# Altium schematic symbol library IC_VS1053B_LQFP48.SchLib: 1 symbol
Pins are listed as number, name and electrical type; pins without a type are passive.

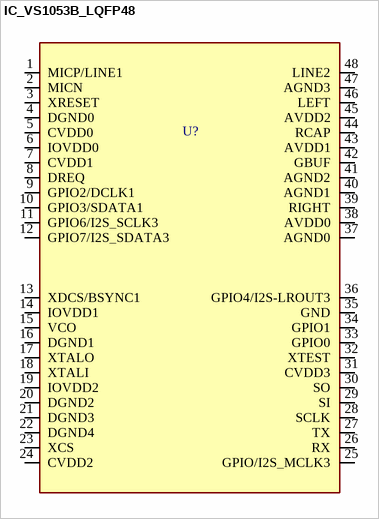
[diagram p0: symbol IC_VS1053B_LQFP48]

## IC_VS1053B_LQFP48
designator U?  (value not drawn)
VS1053B MP3/WAV/OGG/MIDI Player & Recorder (CODEC) Chip; MP: VS1053B-L; MF: VLSI; Availability: Unavailable; Check_prices: https://www.snapeda.com/parts/VS1053B-L/VLSI/view-part/105440/?ref=eda; SnapEDA_Link: https://www.snapeda.com/parts/VS1053B-L/VLSI/view-part/105440/?ref=snap; Price: None; Package: LQFP-48 VLSI; Value: *; Supplier 1: DigiKey; Supplier Part Number 1: 1528-2645-ND; Supplier 2: Mouser; Supplier Part Number 2: 485-1681
footprint IC_VS1053B_LQFP48 (VS1053B MP3/WAV/OGG/MIDI PLAYER)
pins: 1 MICP/LINE1, 2 MICN, 3 XRESET, 4 DGND0, 5 CVDD0, 6 IOVDD0, 7 CVDD1, 8 DREQ, 9 GPIO2/DCLK1, 10 GPIO3/SDATA1, 11 GPIO6/I2S_SCLK3, 12 GPIO7/I2S_SDATA3, 13 XDCS/BSYNC1, 14 IOVDD1, 15 VCO, 16 DGND1, 17 XTALO, 18 XTALI, 19 IOVDD2, 20 DGND2, 21 DGND3, 22 DGND4, 23 XCS, 24 CVDD2, 25 GPIO/I2S_MCLK3, 26 RX, 27 TX, 28 SCLK, 29 SI, 30 SO, 31 CVDD3, 32 XTEST, 33 GPIO0, 34 GPIO1, 35 GND, 36 GPIO4/I2S-LROUT3, 37 AGND0, 38 AVDD0, 39 RIGHT, 40 AGND1, 41 AGND2, 42 GBUF, 43 AVDD1, 44 RCAP, 45 AVDD2, 46 LEFT, 47 AGND3, 48 LINE2